# EAGLE library part TPS773* (library Texas Instruments)
250-mA LDO REGULATORS WITH RESET OUTPUT Source: (TPS773) <http://www.ti.com/lit/ds/symlink/tps773.pdf>
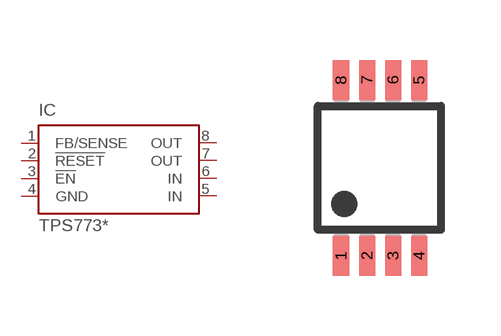
[diagram p25: symbol with the pads of DGK_S-PDSO-G8; footprint DGK_S-PDSO-G8]

Designator prefix IC

## TPS77301 (MF: TEXAS INSTRUMENTS; MPN: TPS77301DGK; OC_FARNELL: 1510194; OC_NEWARK: 77C1213), TPS77315 (MF: TEXAS INSTRUMENTS; MPN: TPS77315DGK; OC_FARNELL: 1412890; OC_NEWARK: 77C1215), TPS77316 (MF: TEXAS INSTRUMENTS; MPN: TPS77316DGK; OC_FARNELL: 1412891; OC_NEWARK: 77C1217), TPS77318 (MF: TEXAS INSTRUMENTS; MPN: TPS77318DGK; OC_FARNELL: 1412893; OC_NEWARK: 77C1219), TPS77327 (MF: TEXAS INSTRUMENTS; MPN: TPS77327DGK; OC_FARNELL: unknown; OC_NEWARK: 77C1221), TPS77328 (MF: TEXAS INSTRUMENTS; MPN: TPS77328DGK; OC_FARNELL: unknown; OC_NEWARK: 77C1223), TPS77333 (MF: TEXAS INSTRUMENTS; MPN: TPS77333DGK; OC_FARNELL: 1510195; OC_NEWARK: 02M1919), TPS77350 (MF: TEXAS INSTRUMENTS; MPN: TPS77350DGK; OC_FARNELL: 1412894; OC_NEWARK: 77C1226)  [DGK_S-PDSO-G8]
1  FB/SENSE  in
2  !RESET  out
3  !EN  in
4  GND  pwr
5  IN  in
6  IN  in
7  OUT  out
8  OUT  pas

## Footprint DGK_S-PDSO-G8 (pad centres in mm)
8-Pin MSOP (DGK) Package Source: DGK (S-PDSO-G8) <http://www.ti.com/lit/ml/mpds028d/mpds028d.pdf>
smd 0.4 x 1: 1 -0.975,-2.2; 2 -0.325,-2.2; 3 0.325,-2.2; 4 0.975,-2.2; 5 0.975,2.2; 6 0.325,2.2; 7 -0.325,2.2; 8 -0.975,2.2